# Altium footprint library C0603_NoSilkscreen.PcbLib: 1 footprints
Each footprint in its own frame and in the unit in brackets; x right, y up, seen from the top. Pads: shape width x height; smd on the part's side, far side on the other; paste and mask are expansions set on the pad; w line width, h text height; cw(c..) or ccw(c..) is an arc to the next point about the centre after c.
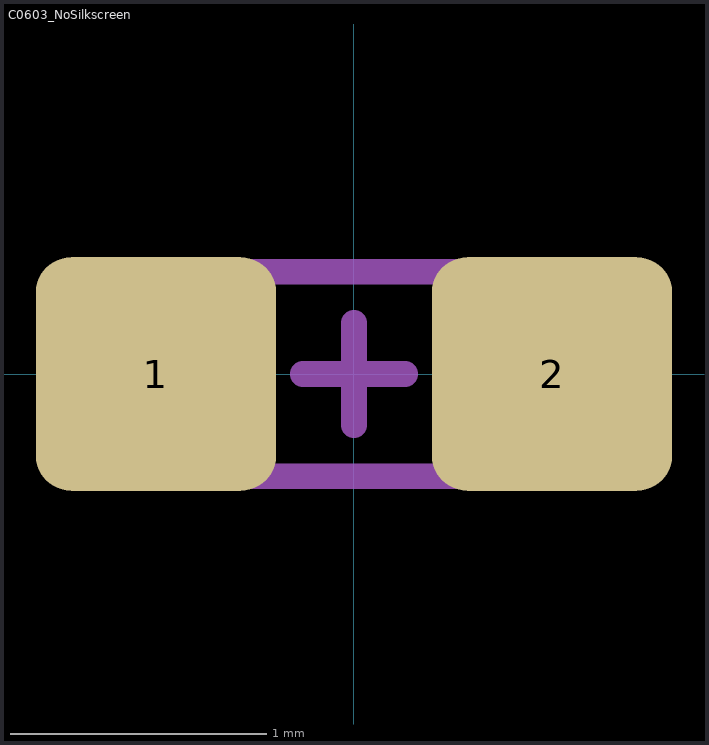
[diagram p0: the footprint, top view; thin cyan lines are the x and y axes]

## C0603_NoSilkscreen [mil]
pads (2):
  rrect30% 37x36 smd mask+4: 1(-30.5,0) 2(30.5,0)
Bottom Designator:
  text ".Designator" at -299.9,-19.99 h60
Mechanical 13:
  lines w3.94: -31.5,-15.75 31.5,-15.75 31.5,15.75 -31.5,15.75 -31.5,-15.75
Mechanical 15:
  lines w3.94: -7.87,0 7.87,0 ; 0,-7.87 0,7.87
3D body "Ceramic_Capacitor_0603_h32mil.step": height 31.5, standoff 0, extent -31.89,-15.75 31.1,15.75